# Altium footprint library MOTOR.PcbLib: 1 footprints
Each footprint in its own frame and in the unit in brackets; x right, y up, seen from the top. Pads: shape width x height; smd on the part's side, far side on the other; paste and mask are expansions set on the pad; w line width, h text height; cw(c..) or ccw(c..) is an arc to the next point about the centre after c.
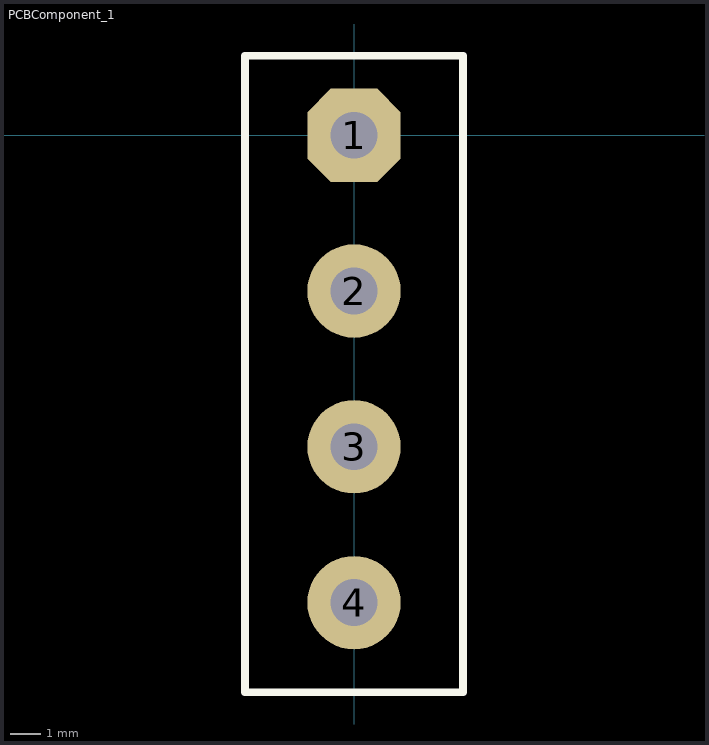
[diagram p0: the footprint, top view; thin cyan lines are the x and y axes]

## PCBComponent_1 [mil]
pads (4):
  oct 120x120 hole 60: 1(0,0)
  round 120 hole 60: 2(0,-200) 3(0,-400) 4(0,-600)
Top Overlay:
  lines w10: 135,-715 140,-715 ; 140,-715 140,-297 140,102 -140,102 -140,-297 -140,-715 140,-715